# EAGLE library part P2823 (library ouijabot)
30:1 Metal Gearmotor 37Dx68L mm with 64 CPR Encoder (Spur Pinion): https://www.pololu.com/product/2823
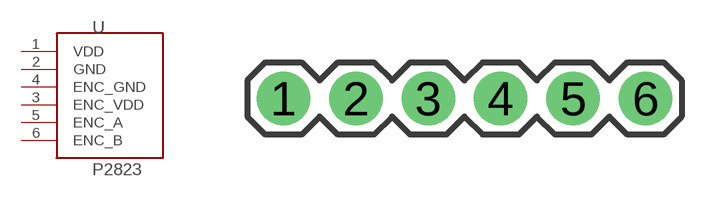
[diagram p1: symbol with the pads of 1X06; footprint 1X06]

Designator prefix -

## P2823  [1X06]
1  VDD
2  GND
3  ENC_VDD
4  ENC_GND
5  ENC_A
6  ENC_B

## Footprint 1X06 (pad centres in mm)
Plated Through Hole - 6 Pin Specifications: Pin count:6 Pin pitch:0.1" Example device(s): CONN_06
drill 1.016 pad 1.88: 1 0,0; 2 2.54,0; 3 5.08,0; 4 7.62,0; 5 10.16,0; 6 12.7,0